# Altium footprint library JST XH SMD 2.5mm straight 6-pos.PcbLib: 1 footprints
Each footprint in its own frame and in the unit in brackets; x right, y up, seen from the top. Pads: shape width x height; smd on the part's side, far side on the other; paste and mask are expansions set on the pad; w line width, h text height; cw(c..) or ccw(c..) is an arc to the next point about the centre after c.
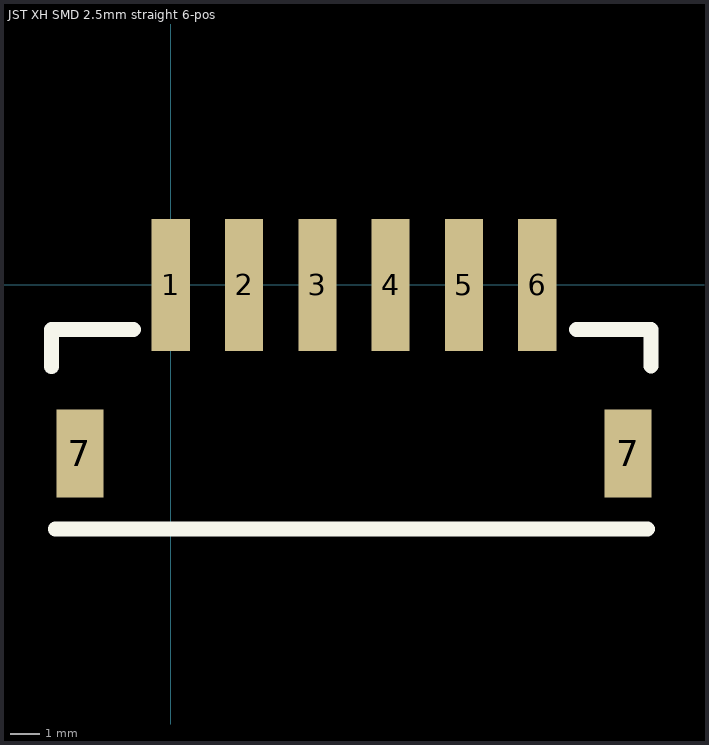
[diagram p0: the footprint, top view; thin cyan lines are the x and y axes]

## JST XH SMD 2.5mm straight 6-pos [mm]
pads (8):
  rect 1.3x4.5 smd: 1(0,0) 2(2.5,0) 3(5,0) 4(7.5,0) 5(10,0) 6(12.5,0)
  rect 1.6x3 smd: 7(-3.1,-5.75) 7(15.6,-5.75)
Top Overlay:
  lines w0.508: -4.064,-2.794 -4.064,-1.524 -1.27,-1.524 ; -3.937,-8.331 16.256,-8.331 ; 13.843,-1.524 16.383,-1.524 16.383,-2.774
3D body: height 5.92, standoff 0, extent 0,0 0,0